# EAGLE library part RP2040-QFN56 (library RpiPico)
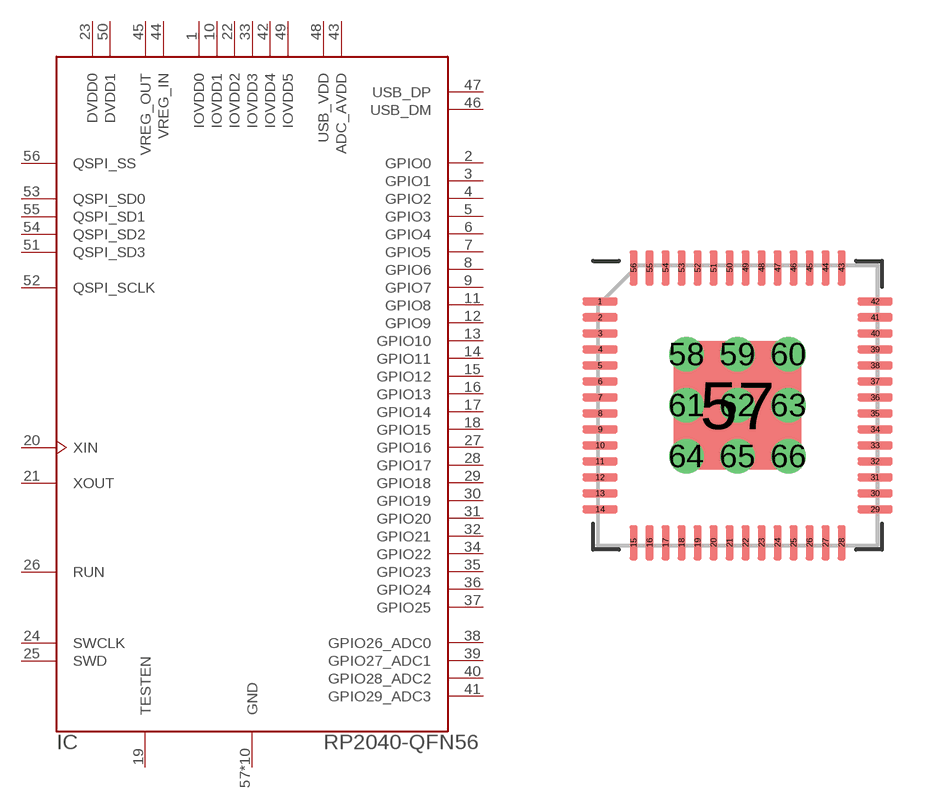
[diagram p1: symbol with the pads of RP2040-QFN-56; footprint RP2040-QFN-56]

Designator prefix IC

## RP2040-QFN56  [RP2040-QFN-56]
1  IOVDD0  pwr
2  GPIO0
3  GPIO1
4  GPIO2
5  GPIO3
6  GPIO4
7  GPIO5
8  GPIO6
9  GPIO7
10  IOVDD1  pwr
11  GPIO8
12  GPIO9
13  GPIO10
14  GPIO11
15  GPIO12
16  GPIO13
17  GPIO14
18  GPIO15
19  TESTEN  pas
20  XIN  in
21  XOUT  pas
22  IOVDD2  pwr
23  DVDD0  pwr
24  SWCLK  out
25  SWD
26  RUN  in
27  GPIO16
28  GPIO17
29  GPIO18
30  GPIO19
31  GPIO20
32  GPIO21
33  IOVDD3  pwr
34  GPIO22
35  GPIO23
36  GPIO24
37  GPIO25
38  GPIO26_ADC0
39  GPIO27_ADC1
40  GPIO28_ADC2
41  GPIO29_ADC3
42  IOVDD4  pwr
43  ADC_AVDD  pwr
44  VREG_IN  pwr
45  VREG_OUT  pwr
46  USB_DM
47  USB_DP
48  USB_VDD  pwr
49  IOVDD5  pwr
50  DVDD1  pwr
51  QSPI_SD3
52  QSPI_SCLK  out
53  QSPI_SD0
54  QSPI_SD2
55  QSPI_SD1
56  QSPI_SS
57  GND  pwr
58  GND  pwr
59  GND  pwr
60  GND  pwr
61  GND  pwr
62  GND  pwr
63  GND  pwr
64  GND  pwr
65  GND  pwr
66  GND  pwr

## Footprint RP2040-QFN-56 (pad centres in mm)
smd 0.875 x 0.2: 1 -3.438,2.6; 2 -3.438,2.2; 3 -3.438,1.8; 4 -3.438,1.4; 5 -3.438,1; 6 -3.438,0.6; 7 -3.438,0.2; 8 -3.438,-0.2; 9 -3.438,-0.6; 10 -3.438,-1; 11 -3.438,-1.4; 12 -3.438,-1.8; 13 -3.438,-2.2; 14 -3.438,-2.6; 29 3.438,-2.6; 30 3.438,-2.2; 31 3.438,-1.8; 32 3.438,-1.4; 33 3.438,-1; 34 3.438,-0.6; 35 3.438,-0.2; 36 3.438,0.2; 37 3.438,0.6; 38 3.438,1; 39 3.438,1.4; 40 3.438,1.8; 41 3.438,2.2; 42 3.438,2.6
smd 0.2 x 0.875: 15 -2.6,-3.438; 16 -2.2,-3.438; 17 -1.8,-3.438; 18 -1.4,-3.438; 19 -1,-3.438; 20 -0.6,-3.438; 21 -0.2,-3.438; 22 0.2,-3.438; 23 0.6,-3.438; 24 1,-3.438; 25 1.4,-3.438; 26 1.8,-3.438; 27 2.2,-3.438; 28 2.6,-3.438; 43 2.6,3.438; 44 2.2,3.438; 45 1.8,3.438; 46 1.4,3.438; 47 1,3.438; 48 0.6,3.438; 49 0.2,3.438; 50 -0.2,3.438; 51 -0.6,3.438; 52 -1,3.438; 53 -1.4,3.438; 54 -1.8,3.438; 55 -2.2,3.438; 56 -2.6,3.438
smd 3.2 x 3.2: 57 0,0
drill 0.35 pad 0.6: 58 -1.275,1.275; 59 0,1.275; 60 1.275,1.275; 61 -1.275,0; 62 0,0; 63 1.275,0; 64 -1.275,-1.275; 65 0,-1.275; 66 1.275,-1.275